# Altium footprint library SparkFun-Sensors.PCBLIB: 114 footprints (part 2 of 8)
Each footprint in its own frame and in the unit in brackets; x right, y up, seen from the top. Pads: shape width x height; smd on the part's side, far side on the other; paste and mask are expansions set on the pad; w line width, h text height; cw(c..) or ccw(c..) is an arc to the next point about the centre after c.
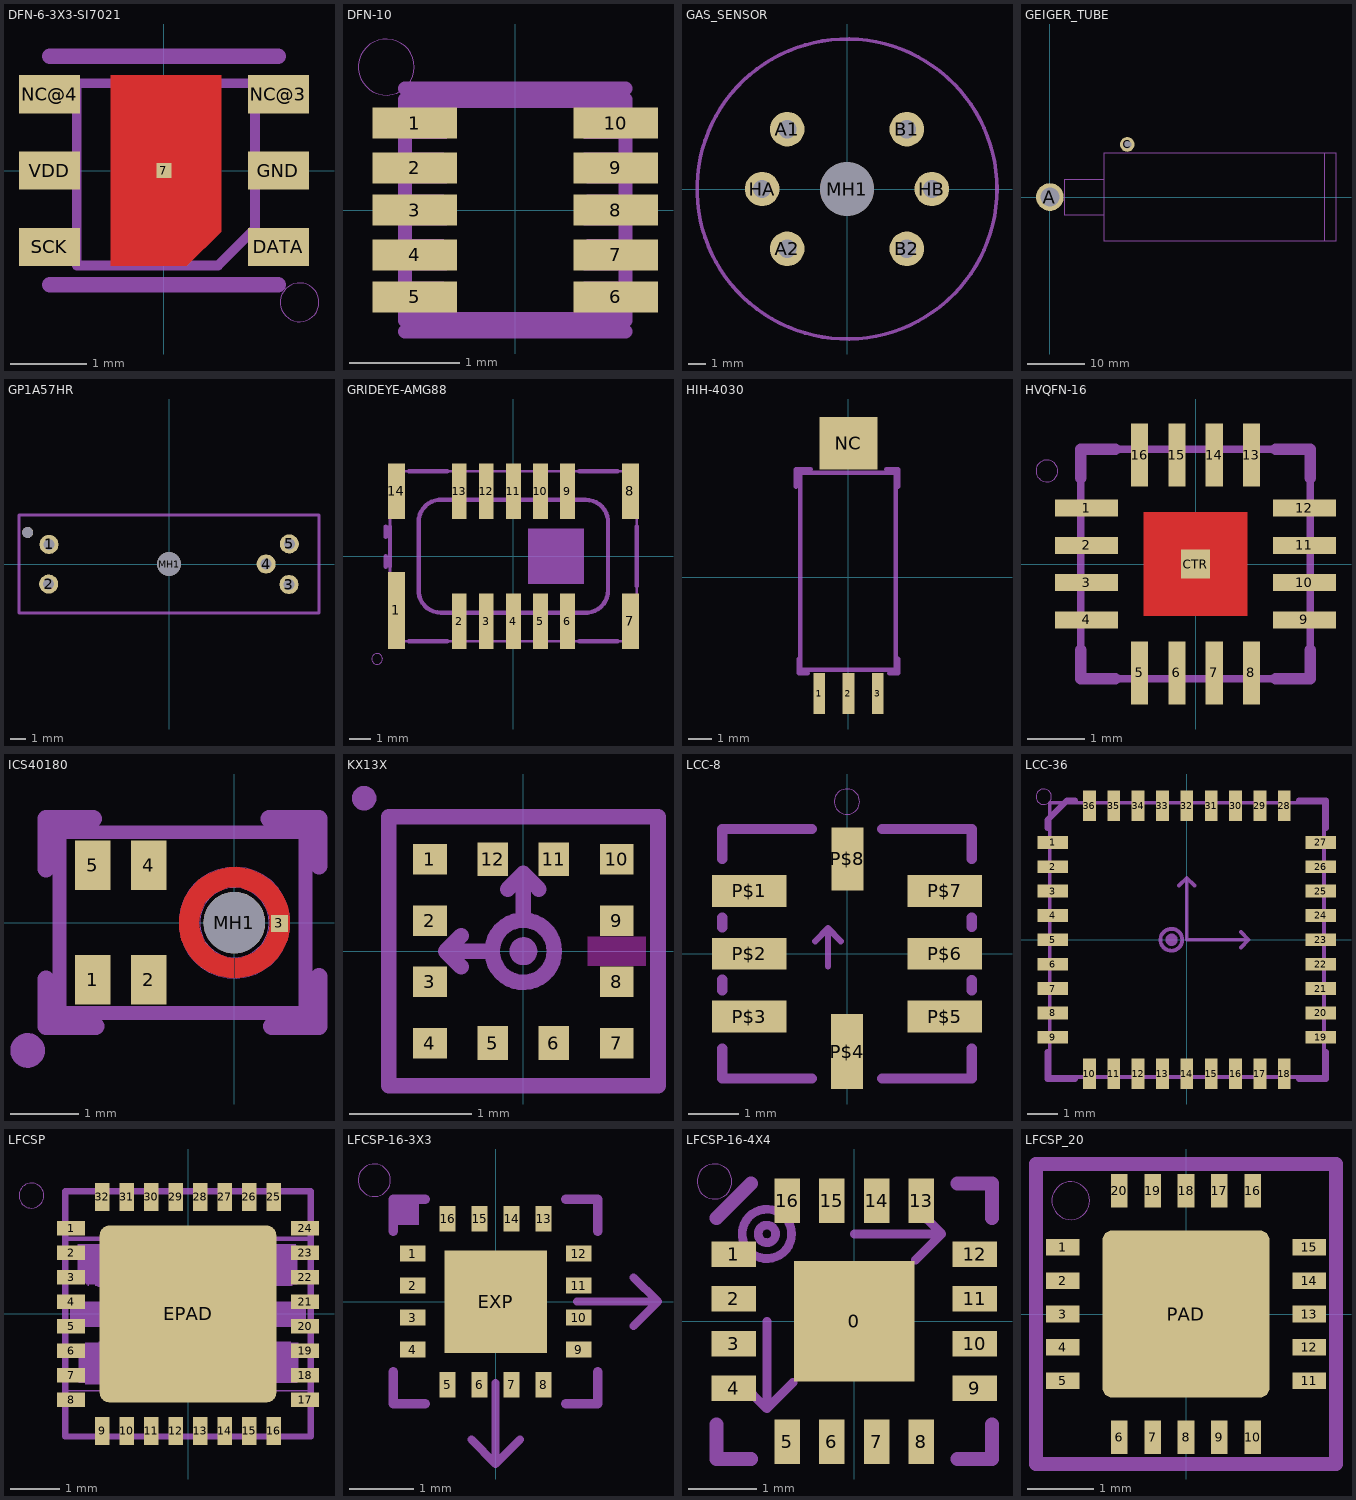
[diagram p1: the footprints below, top view; thin cyan lines are the x and y axes]

## DFN-6-3X3-SI7021 [mil]
pads (7):
  rect 7.87x7.87 smd: 7(0,0)
  rect 31.5x19.69 smd: DATA(59.06,-39.37) GND(59.06,0) NC@3(59.06,39.37) NC@4(-59.06,39.37) SCK(-59.06,-39.37) VDD(-59.06,0)
Top:
  region: -27.56,49.21 29.53,49.21 29.53,-31.5 11.81,-49.21 -27.56,-49.21
Top Paste:
  region: -21.65,41.34 21.65,41.34 21.65,-25.59 3.94,-43.31 -21.65,-43.31
Top Solder:
  region: -30.51,52.17 -30.51,-51.18 14.76,-51.18 32.48,-33.46 32.48,52.17
tDocu:
  circle w5: c0,0 r13.04
  lines w5: -45,-49 28,-49 47,-30 47,45 -45,45 -45,-48
tPlace:
  circle w0: c70,-68 r10
  lines w8: -59,-59 59,-59 ; -59,59 59,59

## DFN-10 [mil]
pads (10):
  rect 30x11 smd: 1(-35.83,31) 2(-35.83,15) 3(-35.83,0) 4(-35.83,-16) 5(-35.83,-31) 6(35.83,-31) 7(35.83,-16) 8(35.83,0) 9(35.83,15) 10(35.83,31)
tDocu:
  lines w5: -39.37,-39.37 -39.37,39.37 39.37,39.37 39.37,-39.37 -39.37,-39.37
tPlace:
  circle w0: c-46,51 r10
  lines w5: -39.37,-43.31 39.37,-43.31 ; -39.37,43.31 39.37,43.31
Mech64:
  drawing of 114 lines, arcs and shapes, not listed

## GAS_SENSOR [mil]
pads (7):
  round 76 hole 40: A1(-131.89,131.89) A2(-131.89,-131.89) B1(131.89,131.89) B2(131.89,-131.89) HA(-187.01,0) HB(187.01,0)
  round 118.11 hole 118.11 unplated: MH1(0,0)
tPlace:
  circle w8: c0,0 r330.71

## GEIGER_TUBE [mil]
pads (2):
  round 190 hole 130: A(0,0)
  round 100 hole 55.12: C(530,360)
tPlace:
  lines w8: 370,-120 370,120 ; 370,-120 370,-300 1880,-300 ; 370,-120 100,-120 100,120 370,120 ; 370,120 370,300 1880,300 ; 1880,-300 1960,-300 1960,300 1880,300 ; 1880,-300 1880,300

## GP1A57HR [mm]
pads (7):
  round 1.208 hole 0.7: 1(-7.6,1.24) 2(-7.62,-1.27) 3(7.6,-1.3) 4(6.15,0) 5(7.62,1.27)
  round 1.5 hole 1.5 unplated: MH1(0,0)
  round 0.7 hole 0.7 unplated: MH2(-8.95,2)
tPlace:
  lines w0.203: -9.5,-3.1 9.5,-3.1 9.5,3.1 -9.5,3.1 -9.5,-3.1

## GRIDEYE-AMG88 [mil]
pads (14):
  rect 31.5x141.73 smd: 1(-216.54,-100.39)
  rect 27.56x102.36 smd: 2(-100,-120.08) 3(-50,-120.08) 4(0,-120.08) 5(50,-120.08) 6(100,-120.08) 9(100,120.08) 10(50,120.08) 11(0,120.08) 12(-50,120.08) 13(-100,120.08)
  rect 31.5x102.36 smd: 7(216.54,-120.08) 8(216.54,120.08) 14(-216.54,120.08)
tDocu:
  lines w5: -228.35,-157.48 228.35,-157.48 228.35,157.48 -228.35,157.48 -228.35,-157.48
  lines w8: -137.8,104.33 133.86,104.33 ; -133.86,-104.33 137.8,-104.33
tPlace:
  circle w0: c-252,-190 r10
  region: 27.56,-51.18 27.56,51.18 129.92,51.18 129.92,-51.18
  lines w8: -236.22,-19.69 -236.22,0 ; -236.22,35.43 -236.22,55.12 ; -228.35,-19.69 -228.35,55.12 ; -192.91,-157.48 -122.05,-157.48 ; -192.91,157.48 -122.05,157.48 ; -137.8,104.33 ccw(c-134.38,63.65) -175.2,62.99 -175.2,-66.93 ccw(c-134.52,-63.51) -133.86,-104.33 ; 122.05,-157.48 192.91,-157.48 ; 122.05,157.48 192.91,157.48 ; 133.86,104.33 cw(c134.52,63.51) 175.2,66.93 175.2,-62.99 cw(c134.38,-63.65) 137.8,-104.33 ; 228.35,-55.12 228.35,55.12

## HIH-4030 [mil]
pads (4):
  rect 20x70 smd: 1(-50,-200) 2(0,-200) 3(50,-200)
  rect 100x90 smd: NC(0,230)
tDocu:
  lines w8: -83,-159 81,-159 81,179 -83,179 -83,-159
tPlace:
  lines w8: -90,155 -90,185 -65,185 ; -85,-140 -85,-165 -70,-165 ; 65,185 85,185 85,155 ; 70,-165 85,-165 85,-140

## HVQFN-16 [mm]
pads (17):
  rect 1.1x0.3 smd: 1(-1.9,0.975) 2(-1.9,0.325) 3(-1.9,-0.325) 4(-1.9,-0.975) 9(1.9,-0.975) 10(1.9,-0.325) 11(1.9,0.325) 12(1.9,0.975)
  rect 0.3x1.1 smd: 5(-0.975,-1.9) 6(-0.325,-1.9) 7(0.325,-1.9) 8(0.975,-1.9) 13(0.975,1.9) 14(0.325,1.9) 15(-0.325,1.9) 16(-0.975,1.9)
  rect 0.5x0.5 smd paste+0 mask+0: CTR(0,0)
Top:
  region: 0.9,-0.9 -0.9,-0.9 -0.9,0.9 0.9,0.9
Top Paste:
  region: -0.3,-0.6 -0.6,-0.6 -0.6,-0.3 -0.3,-0.3
  region: -0.3,0.4 -0.6,0.4 -0.6,0.7 -0.3,0.7
  region: 0.7,0.4 0.4,0.4 0.4,0.7 0.7,0.7
  region: 0.7,-0.6 0.4,-0.6 0.4,-0.3 0.7,-0.3
Top Solder:
  region: 1,-1 -1,-1 -1,1 1,1
tDocu:
  lines w0.127: -2,-2 -2,2 2,2 2,-2 -2,-2
tPlace:
  circle w0: c-2.592,1.623 r0.191
  lines w0.203: -2,-1.5 -2,-2 -1.4,-2 ; -2,1.5 -2,2 -1.4,2 ; 1.4,-2 2,-2 2,-1.5 ; 1.4,2 2,2 2,1.5

## ICS40180 [mil]
pads (6):
  rect 20.55x28.54 smd paste+0: 1(-81.65,-32.99) 2(-49.29,-32.99) 4(-49.29,32.99) 5(-81.65,32.99)
  rect 9.84x9.84 smd paste+0: 3(26,-0.41)
  round 35.43 hole 35.43 unplated: MH1(0,0)
Top:
  region: 0,-20.47 -3.99,-20.08 -11.37,-17.02 -17.02,-11.37 -20.08,-3.99 -20.47,0 -20.08,3.99 -17.02,11.37 -11.37,17.02 -3.99,20.08 0,20.47 3.99,20.08 11.37,17.02 17.02,11.37 20.08,3.99 20.47,0 20.47,-0.39 20.08,-4.31 17.09,-11.55 11.55,-17.09 4.31,-20.08 0.39,-20.47 0.39,-31.89 3.49,-31.89 9.58,-30.68 15.31,-28.3 20.47,-24.86 24.86,-20.47 28.3,-15.31 30.68,-9.58 31.89,-3.49 31.89,-0.39 31.89,0 31.89,3.14 30.66,9.3 28.26,15.11 24.77,20.33 20.33,24.77 15.11,28.26 9.3,30.66 3.14,31.89 0,31.89 -3.16,31.87 -9.35,30.6 -15.18,28.15 -20.41,24.6 -24.85,20.11 -28.33,14.83 -30.71,8.98 -31.91,2.77 -31.89,-0.39 -31.87,-3.51 -30.61,-9.63 -28.19,-15.38 -24.69,-20.55 -20.25,-24.94 -15.04,-28.38 -9.25,-30.73 -3.12,-31.91 0,-31.89
Top Paste:
  region: -89.3,-44.7 -89.3,-21.7 -74.2,-21.7 -74.2,-44.7
  region: -57,-44.4 -57,-21.4 -41.9,-21.4 -41.9,-44.4
  region: -56.9,21.8 -56.9,44.8 -41.8,44.8 -41.8,21.8
  region: -89.5,21.8 -89.5,44.8 -74.4,44.8 -74.4,21.8
  lines w11.81: -24.89,7.01 cw(c-1.39,1.46) -8.33,24.59 ; -24.59,-8.33 ccw(c-1.46,-1.39) -7.01,-24.89 ; 7.01,24.89 cw(c1.46,1.39) 24.59,8.33 ; 8.33,-24.59 ccw(c1.39,-1.46) 24.89,-7.01
Top Solder:
  circle w19.69: c0,0 r27.56
tDocu:
  lines w8: -100.79,-52.17 -100.79,52.17 40.94,52.17 40.94,-52.17 -100.79,-52.17
tPlace:
  circle w10: c-119.25,-73.74 r5
  lines w10: -108.66,-32.68 -108.66,-59.84 -79.92,-59.84 ; -108.66,31.1 -108.66,59.84 -81.5,59.84 ; 20.08,59.84 48.82,59.84 48.82,32.68 ; 21.65,-59.84 48.82,-59.84 48.82,-31.1
Reference:
  circle w0.04: c0,0 r31.99
  circle w0.04: c0,0 r20.18

## KX13X [mm]
pads (12):
  rect 0.275x0.25 smd: 1(-0.763,0.75) 2(-0.763,0.25) 3(-0.763,-0.25) 4(-0.763,-0.75) 7(0.763,-0.75) 8(0.763,-0.25) 9(0.763,0.25) 10(0.763,0.75)
  rect 0.25x0.275 smd: 5(-0.25,-0.75) 6(0.25,-0.75) 11(0.25,0.75) 12(-0.25,0.75)
Top keep-out:
  region: 0.525,-0.12 0.525,0.12 1,0.12 1,-0.12
tDocu:
  circle w0.127: c0,0 r0.254
  circle w0.127: c0,0 r0.051
  lines w0.127: -0.508,-0.127 -0.635,0 ; -0.508,0.127 -0.635,0 ; -0.254,0 -0.635,0 ; -0.127,0.508 0,0.635 ; 0,0.254 0,0.635 ; 0.127,0.508 0,0.635
  text "Y" at -0.889,-0.127 h0.26
  text "X" at -0.127,0.762 h0.26
  text "Z" at 0.381,-0.127 h0.26
tPlace:
  circle w0.1: c-1.3,1.25 r0.05
  lines w0.127: -1.1,-1.1 1.1,-1.1 1.1,1.1 -1.1,1.1 -1.1,-1.1

## LCC-8 [mm]
pads (8):
  rect 1.5x0.64 smd: P$1(-1.96,1.26) P$2(-1.96,0) P$3(-1.96,-1.26) P$5(1.96,-1.26) P$6(1.96,0) P$7(1.96,1.26)
  rect 0.64x1.5 smd: P$4(0,-1.96)
  rect 0.64x1.27 smd: P$8(0.01,1.9)
tDocu:
  lines w0.127: -0.635,0.254 -0.381,0.508 ; -0.381,-0.254 -0.381,0.508 ; -0.127,0.254 -0.381,0.508
  text "X" at 0,-0.254 h0.94
tPlace:
  circle w0: c0,3.048 r0.254
  lines w0.203: -2.5,-1.9 -2.5,-2.5 -0.7,-2.5 ; -2.5,-0.73 -2.5,-0.52 ; -2.5,0.53 -2.5,0.73 ; -2.5,1.9 -2.5,2.5 -0.7,2.5 ; 0.7,-2.5 2.5,-2.5 2.5,-1.9 ; 0.7,2.5 2.5,2.5 2.5,1.9 ; 2.5,-0.73 2.5,-0.53 ; 2.5,0.54 2.5,0.73

## LCC-36 [mm]
pads (36):
  rect 1x0.42 smd: 1(-4.4,3.2) 2(-4.4,2.4) 3(-4.4,1.6) 4(-4.4,0.8) 5(-4.4,0) 6(-4.4,-0.8) 7(-4.4,-1.6) 8(-4.4,-2.4) 9(-4.4,-3.2) 19(4.4,-3.2) 20(4.4,-2.4) 21(4.4,-1.6) 22(4.4,-0.8) 23(4.4,0) 24(4.4,0.8) 25(4.4,1.6) 26(4.4,2.4) 27(4.4,3.2)
  rect 0.42x1 smd: 10(-3.2,-4.4) 11(-2.4,-4.4) 12(-1.6,-4.4) 13(-0.8,-4.4) 14(0,-4.4) 15(0.8,-4.4) 16(1.6,-4.4) 17(2.4,-4.4) 18(3.2,-4.4) 28(3.2,4.4) 29(2.4,4.4) 30(1.6,4.4) 31(0.8,4.4) 32(0,4.4) 33(-0.8,4.4) 34(-1.6,4.4) 35(-2.4,4.4) 36(-3.2,4.4)
tDocu:
  circle w0.127: c-0.508,0 r0.359
  circle w0.203: c-0.5,0 r0.1
  lines w0.127: -0.254,1.778 0,2.032 ; 0.254,1.778 0,2.032 ; 1.778,-0.254 2.032,0 ; 1.778,0.254 2.032,0 ; 0,2.032 0,0 2.032,0 ; -4.5,-4.5 -4.5,4.5 4.5,4.5 4.5,-4.5 -4.5,-4.5
  text "Z" at -1.27,-0.254 h0.47
  text "X" at 2.3,-0.114 h0.47
  text "Y" at -0.014,2.2 h0.47
tPlace:
  circle w0: c-4.699,4.699 r0.254
  lines w0.203: -4.572,-3.683 -4.572,-4.572 -3.683,-4.572 ; -4.572,3.683 -4.572,3.937 -3.937,4.572 -3.683,4.572 ; 3.683,-4.572 4.572,-4.572 4.572,-3.683 ; 3.683,4.572 4.572,4.572 4.572,3.683

## LFCSP [mm]
pads (33):
  rect 0.57x0.3 smd paste+0: 1(-2.385,1.75) 2(-2.385,1.25) 3(-2.385,0.75) 4(-2.385,0.25) 5(-2.385,-0.25) 6(-2.385,-0.75) 7(-2.385,-1.25) 8(-2.385,-1.75) 17(2.385,-1.75) 18(2.385,-1.25) 19(2.385,-0.75) 20(2.385,-0.25) 21(2.385,0.25) 22(2.385,0.75) 23(2.385,1.25) 24(2.385,1.75)
  rect 0.3x0.57 smd paste+0: 9(-1.75,-2.385) 10(-1.25,-2.385) 11(-0.75,-2.385) 12(-0.25,-2.385) 13(0.25,-2.385) 14(0.75,-2.385) 15(1.25,-2.385) 16(1.75,-2.385) 25(1.75,2.385) 26(1.25,2.385) 27(0.75,2.385) 28(0.25,2.385) 29(-0.25,2.385) 30(-0.75,2.385) 31(-1.25,2.385) 32(-1.75,2.385)
  rrect10% 3.6x3.6 smd paste+0: EPAD(0,0)
Top Paste:
  circle w0: c-1,1 r0.45
  circle w0: c1,1 r0.45
  circle w0: c1,-1 r0.45
  circle w0: c-1,-1 r0.45
  circle w0: c0,0 r0.45
  region: 2.1,-1.855 2.1,-1.64 2.67,-1.64 2.67,-1.855
  region: 2.1,-1.355 2.1,-1.14 2.67,-1.14 2.67,-1.355
  region: 2.1,-0.855 2.1,-0.64 2.67,-0.64 2.67,-0.855
  region: 2.1,-0.355 2.1,-0.14 2.67,-0.14 2.67,-0.355
  region: 2.1,0.145 2.1,0.36 2.67,0.36 2.67,0.145
  region: 2.1,0.645 2.1,0.86 2.67,0.86 2.67,0.645
  region: 2.1,1.145 2.1,1.36 2.67,1.36 2.67,1.145
  region: 2.1,1.645 2.1,1.86 2.67,1.86 2.67,1.645
  region: -2.67,-1.862 -2.67,-1.647 -2.1,-1.647 -2.1,-1.862
  region: -2.67,-1.362 -2.67,-1.147 -2.1,-1.147 -2.1,-1.362
  region: -2.67,-0.862 -2.67,-0.647 -2.1,-0.647 -2.1,-0.862
  region: -2.67,-0.362 -2.67,-0.147 -2.1,-0.147 -2.1,-0.362
  region: -2.67,0.138 -2.67,0.353 -2.1,0.353 -2.1,0.138
  region: -2.67,0.638 -2.67,0.853 -2.1,0.853 -2.1,0.638
  region: -2.67,1.138 -2.67,1.353 -2.1,1.353 -2.1,1.138
  region: -2.67,1.638 -2.67,1.853 -2.1,1.853 -2.1,1.638
  region: 1.857,-2.671 1.642,-2.671 1.642,-2.101 1.857,-2.101
  region: 1.357,-2.671 1.142,-2.671 1.142,-2.101 1.357,-2.101
  region: 0.857,-2.671 0.642,-2.671 0.642,-2.101 0.857,-2.101
  region: 0.357,-2.671 0.142,-2.671 0.142,-2.101 0.357,-2.101
  region: -0.143,-2.671 -0.358,-2.671 -0.358,-2.101 -0.143,-2.101
  region: -0.643,-2.671 -0.858,-2.671 -0.858,-2.101 -0.643,-2.101
  region: -1.143,-2.671 -1.358,-2.671 -1.358,-2.101 -1.143,-2.101
  region: -1.643,-2.671 -1.858,-2.671 -1.858,-2.101 -1.643,-2.101
  region: 1.858,2.1 1.643,2.1 1.643,2.67 1.858,2.67
  region: 1.358,2.1 1.143,2.1 1.143,2.67 1.358,2.67
  region: 0.858,2.1 0.643,2.1 0.643,2.67 0.858,2.67
  region: 0.358,2.1 0.143,2.1 0.143,2.67 0.358,2.67
  region: -0.142,2.1 -0.357,2.1 -0.357,2.67 -0.142,2.67
  region: -0.642,2.1 -0.857,2.1 -0.857,2.67 -0.642,2.67
  region: -1.142,2.1 -1.357,2.1 -1.357,2.67 -1.142,2.67
  region: -1.642,2.1 -1.857,2.1 -1.857,2.67 -1.642,2.67
tDocu:
  circle w0.203: c-1.54,1.524 r0.1
  circle w0.051: c-0.051,1.473 r0.127
  circle w0.051: c-0.051,1.473 r0.025
  lines w0.051: -0.432,0.914 -0.559,1.041 ; -0.432,1.168 -0.559,1.041 ; -0.305,1.041 -0.559,1.041 ; 0.203,1.575 0.33,1.702 ; 0.33,1.448 0.33,1.702 ; 0.457,1.575 0.33,1.702
  lines w0.127: -2.5,-2.5 -2.5,2.5 2.5,2.5 2.5,-2.5 -2.5,-2.5
  text "X" at 0.229,1.092 h0.26
  text "Y" at -0.254,0.914 h0.26
  text "Z" at -0.406,1.346 h0.26
tPlace:
  circle w0: c-3.191,2.413 r0.254
Mech64:
  drawing of 702 lines, arcs and shapes, not listed

## LFCSP-16-3X3 [mm]
pads (17):
  rect 0.4x0.25 smd: 1(-1.3,0.75) 2(-1.3,0.25) 3(-1.3,-0.25) 4(-1.3,-0.75) 9(1.3,-0.75) 10(1.3,-0.25) 11(1.3,0.25) 12(1.3,0.75)
  rect 0.25x0.4 smd: 5(-0.75,-1.3) 6(-0.25,-1.3) 7(0.25,-1.3) 8(0.75,-1.3) 13(0.75,1.3) 14(0.25,1.3) 15(-0.25,1.3) 16(-0.75,1.3)
  rect 1.6x1.6 smd paste+0 mask+0: EXP(0,0)
Top Paste:
  region: -0.356,-0.356 -0.356,0.356 0.356,0.356 0.356,-0.356
Top Solder:
  region: -0.9,-0.9 -0.9,0.9 0.9,0.9 0.9,-0.9
tDocu:
  circle w0.127: c0,0 r0.359
  circle w0.127: c0,0 r0.127
  lines w0.127: -0.381,-2.159 0,-2.54 ; 0,-1.27 0,-2.54 ; 0.381,-2.159 0,-2.54 ; 1.27,0 2.54,0 ; 2.159,-0.381 2.54,0 ; 2.159,0.381 2.54,0
  text "X" at -0.127,-1.143 h0.79
  text "Z" at -0.762,0.127 h0.79
  text "Y" at 1.27,0.127 h0.79
tPlace:
  circle w0: c-1.9,1.9 r0.254
  region: -1.6,1.2 -1.6,1.6 -1.2,1.6 -1.2,1.2
  lines w0.15: -1.6,-1.1 -1.6,-1.6 -1.1,-1.6 ; -1.6,1.1 -1.6,1.6 -1.1,1.6 ; 1.1,-1.6 1.6,-1.6 1.6,-1.1 ; 1.1,1.6 1.6,1.6 1.6,1.1

## LFCSP-16-4X4 [mm]
pads (17):
  rect 1.75x1.75 smd paste+0: 0(0,0)
  rect 0.65x0.37 smd: 1(-1.75,0.975) 2(-1.75,0.325) 3(-1.75,-0.325) 4(-1.75,-0.975) 9(1.75,-0.975) 10(1.75,-0.325) 11(1.75,0.325) 12(1.75,0.975)
  rect 0.37x0.65 smd: 5(-0.975,-1.75) 6(-0.325,-1.75) 7(0.325,-1.75) 8(0.975,-1.75) 13(0.975,1.75) 14(0.325,1.75) 15(-0.325,1.75) 16(-0.975,1.75)
Top Paste:
  region: -0.25,-0.25 -0.25,0.25 0.25,0.25 0.25,-0.25
tDocu:
  circle w0.127: c-1.27,1.27 r0.359
  circle w0.127: c-1.27,1.27 r0.127
  lines w0.127: -1.651,-0.889 -1.27,-1.27 ; -1.27,0 -1.27,-1.27 ; -0.889,-0.889 -1.27,-1.27 ; 0,1.27 1.27,1.27 ; 0.889,0.889 1.27,1.27 ; 0.889,1.651 1.27,1.27
  text "X" at -1.397,0.127 h0.79
  text "Z" at -2.032,1.397 h0.79
  text "Y" at 0,1.397 h0.79
tPlace:
  circle w0: c-2.032,2.032 r0.254
  lines w0.203: -2,-1.5 -2,-2 -1.5,-2 ; -2,1.5 -1.5,2 ; 1.5,-2 2,-2 2,-1.5 ; 1.5,2 2,2 2,1.5

## LFCSP_20 [mm]
pads (21):
  rect 0.5x0.25 smd: 1(-1.85,1) 2(-1.85,0.5) 3(-1.85,0) 4(-1.85,-0.5) 5(-1.85,-1) 11(1.85,-1) 12(1.85,-0.5) 13(1.85,0) 14(1.85,0.5) 15(1.85,1)
  rect 0.25x0.5 smd: 6(-1,-1.85) 7(-0.5,-1.85) 8(0,-1.85) 9(0.5,-1.85) 10(1,-1.85) 16(1,1.85) 17(0.5,1.85) 18(0,1.85) 19(-0.5,1.85) 20(-1,1.85)
  rrect10% 2.5x2.5 smd paste+0: PAD(0,0)
Top Paste:
  region: 0,0.508 0.101,0.508 0.288,0.431 0.431,0.288 0.508,0.101 0.508,0 0.508,-0.101 0.431,-0.288 0.288,-0.431 0.101,-0.508 0,-0.508 -0.101,-0.508 -0.288,-0.431 -0.431,-0.288 -0.508,-0.101 -0.508,0 -0.508,0.101 -0.431,0.288 -0.288,0.431 -0.101,0.508 0,0.508
tDocu:
  circle w0: c-1.729,1.7 r0.283
  lines w0.203: -2.25,-2.25 -2.25,2.25 2.25,2.25 2.25,-2.25 -2.25,-2.25